# Altium footprint library ZPWL.PcbLib: 168 footprints (part 10 of 11)
Each footprint in its own frame and in the unit in brackets; x right, y up, seen from the top. Pads: shape width x height; smd on the part's side, far side on the other; paste and mask are expansions set on the pad; w line width, h text height; cw(c..) or ccw(c..) is an arc to the next point about the centre after c.
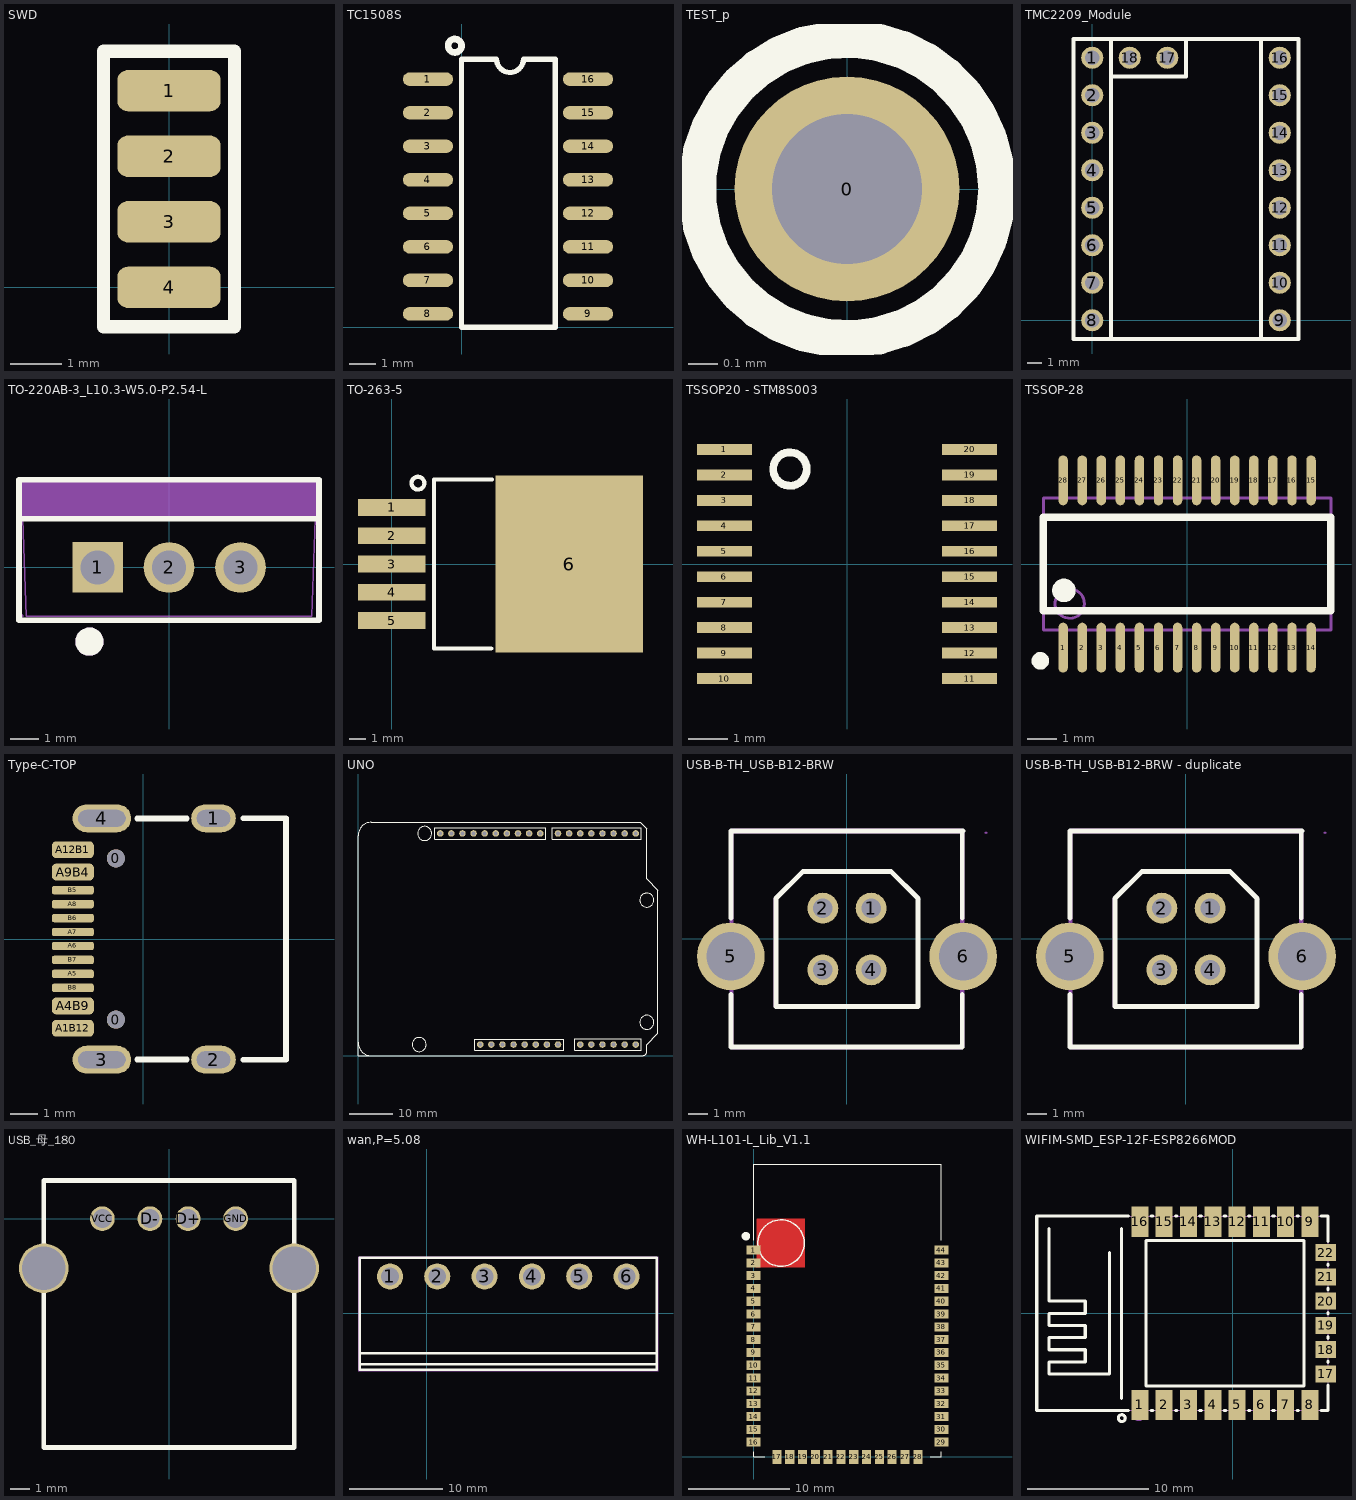
[diagram p9: the footprints below, top view; thin cyan lines are the x and y axes]

## SWD [mm]
pads (4):
  rrect50% 2x0.8 smd: 1(0,3.81) 2(0,2.54) 3(0,1.27) 4(0,0)
Top Overlay:
  lines w0.254: -1.27,-0.762 1.27,-0.762 1.27,4.572 -1.27,4.572 -1.27,-0.762

## TC1508S [mil]
pads (16):
  oval 75x20 smd: 1(-50,370) 2(-50,320) 3(-50,270) 4(-50,220) 5(-50,170) 6(-50,120) 7(-50,70) 8(-50,20) 9(188.72,20) 10(188.72,70) 11(188.72,120) 12(188.72,170) 13(188.72,220) 14(188.72,270) 15(188.72,320) 16(188.72,370)
Top Overlay:
  circle w10: c-10,420 r10
  lines w7.87: 0,0 0,400 52.36,400 ccw(c72.36,400) 92.36,400 140,400 140,0 0,0

## TEST_p [mil]
pads (1):
  round 30 hole 20: 0(0,0)
Top Overlay:
  circle w5: c0,0 r20

## TMC2209_Module [mm]
pads (19):
  round 1.5 hole 1: 1(0,17.78) 2(0,15.24) 3(0,12.7) 4(0,10.16) 5(0,7.62) 5(0,7.62) 6(0,5.08) 7(0,2.54) 8(0,0) 9(12.7,0) 10(12.7,2.54) 11(12.7,5.08) 12(12.7,7.62) 13(12.7,10.16) 14(12.7,12.7) 15(12.7,15.24) 16(12.7,17.78) 17(5.08,17.78) 18(2.54,17.78)
Top Overlay:
  lines w0.254: 1.27,-1.27 1.27,19.05 ; 1.27,16.51 6.35,16.51 6.35,19.05 ; 11.43,-1.27 11.43,19.05 ; -1.27,-1.27 13.97,-1.27 13.97,19.05 -1.27,19.05 -1.27,-1.27

## TO-220AB-3_L10.3-W5.0-P2.54-L [mm]
pads (3):
  rect 1.8x1.8 hole 1.2: 1(-2.54,0)
  round 1.8 hole 1.2: 2(0,0) 3(2.54,0)
Top Overlay:
  circle w0.5: c-2.83,-2.64 r0.25
  lines w0.201: -5.334,3.12 -5.334,-1.88 5.33,-1.88 5.33,3.12 -5.33,3.12 ; -5.33,1.724 5.33,1.724
Mechanical 6:
  circle w0.5: c-2.83,-2.64 r0.25
  region: -5.25,1.73 -5.25,3.13 5.25,3.13 5.25,1.73
Mechanical 15:
  region: 2.19,-0.25 2.19,0.25 2.89,0.25 2.89,-0.25
  region: -0.35,-0.25 -0.35,0.25 0.35,0.25 0.35,-0.25
  region: -2.89,0.25 -2.19,0.25 -2.19,-0.25 -2.89,-0.25
  region: -5.19,-1.73 -5.19,-1.705 -5.225,-1.67 -5.275,-1.67 -5.31,-1.705 -5.31,-1.73 -5.31,-1.755 -5.275,-1.79 -5.225,-1.79 -5.19,-1.755 -5.19,-1.73
  lines w0.051: -5.25,1.73 -5.25,3.13 5.25,3.13 5.25,1.73 5.2,1.73 5.2,1.74 5.08,-1.73 -5.08,-1.73 -5.2,1.73 -5.25,1.73

## TO-263-5 [mil]
pads (6):
  rect 160x40 smd: 1(0,133.86) 2(0,66.93) 3(0,0) 4(0,-66.93) 5(0,-133.86)
  rect 350x420 smd: 6(420,0)
Top Overlay:
  circle w10: c61.89,191.27 r15.17
  lines w10: 235.51,-200 100,-200 100,200 237.14,200

## TSSOP20 - STM8S003 [mm]
pads (20):
  rect 1.4x0.28 smd: 1(-3.124,2.925) 2(-3.124,2.275) 3(-3.124,1.625) 4(-3.124,0.975) 5(-3.124,0.325) 6(-3.124,-0.325) 7(-3.124,-0.975) 8(-3.124,-1.625) 9(-3.124,-2.275) 10(-3.124,-2.925) 11(3.124,-2.925) 12(3.124,-2.275) 13(3.124,-1.625) 14(3.124,-0.975) 15(3.124,-0.325) 16(3.124,0.325) 17(3.124,0.975) 18(3.124,1.625) 19(3.124,2.275) 20(3.124,2.925)
Top Overlay:
  circle w0.2: c-1.454,2.42 r0.427
3D body "TSSOP20.STEP": height 1.05, standoff 0, extent -3.175,-3.251 3.225,3.249

## TSSOP-28 [mm]
pads (28):
  oval 0.32x1.7 smd: 1(-4.225,-2.85) 2(-3.575,-2.85) 3(-2.925,-2.85) 4(-2.275,-2.85) 5(-1.625,-2.85) 6(-0.975,-2.85) 7(-0.325,-2.85) 8(0.325,-2.85) 9(0.975,-2.85) 10(1.625,-2.85) 11(2.275,-2.85) 12(2.925,-2.85) 13(3.575,-2.85) 14(4.225,-2.85) 15(4.225,2.85) 16(3.575,2.85) 17(2.925,2.85) 18(2.275,2.85) 19(1.625,2.85) 20(0.975,2.85) 21(0.325,2.85) 22(-0.325,2.85) 23(-0.975,2.85) 24(-1.625,2.85) 25(-2.275,2.85) 26(-2.925,2.85) 27(-3.575,2.85) 28(-4.225,2.85)
Top Overlay:
  circle w0.3: c-5,-3.3 r0.15
  circle w0.4: c-4.2,-0.9 r0.2
  lines w0.254: -4.9,-1.6 -4.9,1.6 4.9,1.6 4.9,-1.6 -4.9,-1.6
Mechanical 13:
  circle w0.1: c-4,-1.35 r0.5
  lines w0.1: -4.9,-2.25 -4.9,2.25 4.9,2.25 4.9,-2.25 -4.9,-2.25

## Type-C-TOP [mm]
pads (18):
  round 0.65 hole 0.65: 0(-0.98,-2.89) 0(-0.98,2.89)
  oval 1.6x1 hole 0.6 slot 1.2 at 0 deg: 1(2.52,4.325) 2(2.52,-4.325)
  oval 2.1x1 hole 0.6 slot 1.7 at 0 deg: 3(-1.48,-4.325) 4(-1.48,4.325)
  rrect50% 1.5x0.6 smd: A1B12(-2.52,-3.2) A4B9(-2.52,-2.4) A9B4(-2.52,2.4) A12B1(-2.52,3.2)
  rrect50% 1.5x0.3 smd: A5(-2.52,-1.25) A6(-2.52,-0.25) A7(-2.52,0.25) A8(-2.52,1.25) B5(-2.52,1.75) B6(-2.52,0.75) B7(-2.52,-0.75) B8(-2.52,-1.75)
Top Overlay:
  lines w0.203: -0.218,-4.318 1.56,-4.318 ; -0.218,4.318 1.56,4.318 ; 3.592,-4.325 5.12,-4.325 5.12,4.325 3.592,4.325
3D body "1.step": height 3.26, standoff -1, extent -2.568,-4.475 5.182,4.475

## UNO [mm]
pads (32):
  round 1.5 hole 0.9: 1(27.94,2.54) 2(30.48,2.54) 3(33.02,2.54) 4(35.56,2.54) 5(38.1,2.54) 6(40.64,2.54) 7(43.18,2.54) 8(45.72,2.54) 9(50.8,2.54) 10(53.34,2.54) 11(55.88,2.54) 12(58.42,2.54) 13(60.96,2.54) 14(63.5,2.54) 15(63.5,50.8) 16(60.96,50.8) 17(58.42,50.8) 18(55.88,50.8) 19(53.34,50.8) 20(50.8,50.8) 21(48.26,50.8) 22(45.72,50.8) 23(41.656,50.8) 24(39.116,50.8) 25(36.576,50.8) 26(34.036,50.8) 27(31.496,50.8) 28(28.956,50.8) 29(26.416,50.8) 30(23.876,50.8) 31(21.336,50.8) 32(18.796,50.8)
Top Overlay:
  circle w0.254: c66.04,35.56 r1.6
  circle w0.254: c13.97,2.54 r1.6
  circle w0.254: c15.24,50.8 r1.6
  circle w0.254: c66.04,7.62 r1.6
  lines w0.2: 17.526,49.53 42.926,49.53 42.926,52.07 17.526,52.07 17.526,49.53 ; 26.67,1.27 46.99,1.27 46.99,3.81 26.67,3.81 26.67,1.27 ; 44.45,49.53 64.77,49.53 64.77,52.07 44.45,52.07 44.45,49.53 ; 49.53,1.27 64.77,1.27 64.77,3.81 49.53,3.81 49.53,1.27
  lines w0.254: 0,1 0,50.292 cw(c3.048,50.292) 3.048,53.34 64.516,53.34 66.04,51.816 66.04,40.386 68.58,37.846 68.58,5.08 66.04,2.54 66.04,1 cw(c65.04,1) 65.04,0 1,0 ; 0,1.422 0,0 1.27,0 ; 0,3.048 ccw(c3.048,3.048) 3.048,0

## USB-B-TH_USB-B12-BRW [mm]
pads (6):
  round 1.6 hole 1: 1(1.25,1.6) 2(-1.25,1.6) 3(-1.25,-1.6) 4(1.25,-1.6)
  round 3.5 hole 2.5: 5(-6.02,-0.9) 6(6.02,-0.9)
Top Overlay:
  lines w0.254: -6,-2.881 -6,-5.588 5.969,-5.588 5.969,-2.881 ; -6,1.081 -6,5.588 6,5.588 ; 5.969,1.08 5.969,5.588 ; -3.683,-3.493 3.683,-3.493 3.683,2.095 2.286,3.492 -1.905,3.492 -2.286,3.492 -3.683,2.095 -3.683,-3.493
Mechanical 6:
  region: 5.87,5.5 5.87,-5.45 5.82,-5.5 -5.83,-5.5 -5.88,-5.45 -5.88,5.45 -5.83,5.5 -5.83,5.7 -5.98,5.7 -6.08,5.6 -6.08,-5.6 -5.98,-5.7 5.97,-5.7 6.07,-5.6 6.07,5.6 5.97,5.7 -5.78,5.7 -5.78,5.5
  region: 2.1,3.55 -2.35,3.55 -3.8,2.1 -3.55,2.1 -2.25,3.4 2.25,3.4 3.6,2.05 3.8,2.05 2.3,3.55 2.25,3.55
  region: -3.8,2.1 -3.8,-3.5 -3.7,-3.6 -3.6,-3.6 -3.6,2.05 -3.55,2.1
  region: 3.775,2.1 3.775,-3.5 3.675,-3.6 3.575,-3.6 3.575,2.05 3.525,2.1
  region: 3.55,-3.4 -3.55,-3.4 -3.55,-3.6 3.5,-3.6 3.55,-3.6
Mechanical 15:
  region: 7.26,5.5 7.26,5.525 7.225,5.56 7.176,5.56 7.14,5.525 7.14,5.5 7.14,5.475 7.176,5.44 7.225,5.44 7.26,5.475 7.26,5.5
  region: 0.95,1.725 1.55,1.725 1.55,1.475 0.95,1.475
  region: 0.95,-1.475 1.55,-1.475 1.55,-1.725 0.95,-1.725
  region: -1.55,-1.475 -0.95,-1.475 -0.95,-1.725 -1.55,-1.725
  region: -1.55,1.725 -0.95,1.725 -0.95,1.475 -1.55,1.475
  region: 5.87,-1.65 5.87,-0.15 6.17,-0.15 6.17,-1.65
  region: -6.17,-1.65 -6.17,-0.15 -5.87,-0.15 -5.87,-1.65
  region: 7.2,-0.15 7.2,-1.65 5.87,-1.65 5.87,-0.15
  region: -7.201,-1.65 -7.201,-0.15 -5.87,-0.15 -5.87,-1.65
  lines w0.051: -6,-5.5 -6,5.5 6,5.5 6,-5.5 -6,-5.5
3D body "USB-B12-BRW.STEP": height 16.32, standoff -5.1, extent -7.399,-5.412 7.399,5.588

## USB-B-TH_USB-B12-BRW - duplicate [mm]
pads (6):
  round 1.6 hole 1: 1(1.25,1.6) 2(-1.25,1.6) 3(-1.25,-1.6) 4(1.25,-1.6)
  round 3.5 hole 2.5: 5(-6.02,-0.9) 6(6.02,-0.9)
Top Overlay:
  lines w0.254: -6,-2.881 -6,-5.588 5.969,-5.588 5.969,-2.881 ; -6,1.081 -6,5.588 6,5.588 ; 5.969,1.08 5.969,5.588 ; -3.683,-3.493 -3.683,2.095 -2.286,3.492 -1.905,3.492 2.286,3.492 3.683,2.095 3.683,-3.493 -3.683,-3.493
Mechanical 6:
  region: 3.55,-3.4 -3.55,-3.4 -3.55,-3.6 3.5,-3.6 3.55,-3.6
  region: 3.775,2.1 3.775,-3.5 3.675,-3.6 3.575,-3.6 3.575,2.05 3.525,2.1
  region: -3.8,2.1 -3.8,-3.5 -3.7,-3.6 -3.6,-3.6 -3.6,2.05 -3.55,2.1
  region: 2.1,3.55 -2.35,3.55 -3.8,2.1 -3.55,2.1 -2.25,3.4 2.25,3.4 3.6,2.05 3.8,2.05 2.3,3.55 2.25,3.55
  region: 5.87,5.5 5.87,-5.45 5.82,-5.5 -5.83,-5.5 -5.88,-5.45 -5.88,5.45 -5.83,5.5 -5.83,5.7 -5.98,5.7 -6.08,5.6 -6.08,-5.6 -5.98,-5.7 5.97,-5.7 6.07,-5.6 6.07,5.6 5.97,5.7 -5.78,5.7 -5.78,5.5
Mechanical 15:
  region: -7.201,-1.65 -7.201,-0.15 -5.87,-0.15 -5.87,-1.65
  region: 7.2,-0.15 7.2,-1.65 5.87,-1.65 5.87,-0.15
  region: -6.17,-1.65 -6.17,-0.15 -5.87,-0.15 -5.87,-1.65
  region: 5.87,-1.65 5.87,-0.15 6.17,-0.15 6.17,-1.65
  region: -1.55,1.725 -0.95,1.725 -0.95,1.475 -1.55,1.475
  region: -1.55,-1.475 -0.95,-1.475 -0.95,-1.725 -1.55,-1.725
  region: 0.95,-1.475 1.55,-1.475 1.55,-1.725 0.95,-1.725
  region: 0.95,1.725 1.55,1.725 1.55,1.475 0.95,1.475
  region: 7.26,5.5 7.26,5.525 7.225,5.56 7.176,5.56 7.14,5.525 7.14,5.5 7.14,5.475 7.176,5.44 7.225,5.44 7.26,5.475 7.26,5.5
  lines w0.051: -6,-5.5 6,-5.5 6,5.5 -6,5.5 -6,-5.5

## USB_母_180 [mm]
pads (6):
  round 1.3 hole 1: D+(1,0) D-(-1,0) GND(3.5,0) VCC(-3.5,0)
  round 2.6 hole 2.3: ""(-6.57,-2.6) ""(6.57,-2.6)
Top Overlay:
  lines w0.254: -6.575,-12 6.575,-12 6.575,2 -6.575,2 ; -6.57,-12 -6.57,2

## wan,P=5.08 [mm]
pads (6):
  round 2.8 hole 1.9 paste+0 mask+0.051: 1(-3.939,3.964) 2(1.141,3.964) 3(6.221,3.964) 4(11.301,3.964) 5(16.381,3.964) 6(21.461,3.964)
Top Overlay:
  lines w0.254: -7.179,-5.449 24.701,-5.449 ; -7.179,-4.291 24.701,-4.291 ; -7.179,-6.036 -7.179,5.964 24.701,5.964 24.701,-6.036 -7.179,-6.036
Mechanical 15:
  drawing of 11 lines, arcs and shapes, not listed
3D body "XY2500R-D-5.08-6P.STEP": height 8.65, standoff -3.25, extent -7.38,-6.136 24.6,5.864

## WH-L101-L_Lib_V1.1 [mm] "WH-L101封装"
pads (44):
  rect 1.4x0.9 smd: 1(0,20.52) 2(0,19.25) 3(0,17.98) 4(0,16.71) 5(0,15.44) 6(0,14.17) 7(0,12.9) 8(0,11.63) 9(0,10.36) 10(0,9.09) 11(0,7.82) 12(0,6.55) 13(0,5.28) 14(0,4.01) 15(0,2.74) 16(0,1.47) 29(18.62,1.47) 30(18.62,2.74) 31(18.62,4.01) 32(18.62,5.28) 33(18.62,6.55) 34(18.62,7.82) 35(18.62,9.09) 36(18.62,10.36) 37(18.62,11.63) 38(18.62,12.9) 39(18.62,14.17) 40(18.62,15.44) 41(18.62,16.71) 42(18.62,17.98) 43(18.62,19.25) 44(18.62,20.52)
  rect 0.9x1.4 smd: 17(2.31,0) 18(3.58,0) 19(4.85,0) 20(6.12,0) 21(7.39,0) 22(8.66,0) 23(9.93,0) 24(11.2,0) 25(12.47,0) 26(13.74,0) 27(15.02,0) 28(16.29,0)
Top Layer:
  pour cut-out: 0.33,23.622 5.08,23.622 5.08,18.796 0.33,18.796
Top Overlay:
  circle w0.152: c2.72,21.21 r2.3
  circle w0.762: c-0.762,21.895 r0.036
  lines w0.07: 0,0.5 0,0 1.12,0 ; 0,21.5 0,29.05 18.62,29.05 18.62,21.5 ; 17.5,0 18.62,0 18.62,0.5

## WIFIM-SMD_ESP-12F-ESP8266MOD [mm]
pads (22):
  rect 1.4x2.5 smd: 1(-7.651,-7.551) 2(-5.651,-7.551) 3(-3.651,-7.551) 4(-1.651,-7.551) 5(0.349,-7.551) 6(2.349,-7.551) 7(4.349,-7.551) 8(6.349,-7.551) 9(6.349,7.549) 10(4.349,7.55) 11(2.349,7.551) 12(0.349,7.551) 13(-1.651,7.55) 14(-3.651,7.551) 15(-5.651,7.55) 16(-7.651,7.551)
  rect 1.7x1.4 smd: 17(7.651,-5) 18(7.649,-3.002) 19(7.65,-1.003) 20(7.65,0.997) 21(7.65,2.997) 22(7.65,4.997)
Top Overlay:
  circle w0.254: c-9.144,-8.636 r0.284
  lines w0.254: -15.151,6.998 -15.151,0.998 -12.151,0.998 -12.151,-0.002 -15.151,-0.002 -15.151,-1.002 -12.151,-1.002 -12.151,-2.002 -15.151,-2.002 -15.151,-3.002 -12.151,-3.002 -12.151,-4.002 -15.151,-4.002 -15.151,-5.002 -10.151,-5.002 -10.151,4.998 ; -9.151,-7.002 -9.151,6.998 ; -8.582,-8.001 -16.151,-8.001 -16.151,7.998 -8.582,7.998 ; -6.719,-8.001 -6.582,-8.001 ; -6.719,7.998 -6.582,7.998 ; -4.719,-8.001 -4.582,-8.001 ; -4.719,7.998 -4.582,7.998 ; -2.719,-8.001 -2.582,-8.001 ; -2.719,7.998 -2.582,7.998 ; -0.719,-8.001 -0.582,-8.001 ; -0.719,7.998 -0.582,7.998 ; 1.281,-8.001 1.418,-8.001 ; 1.281,7.998 1.418,7.998 ; 3.281,-8.001 3.418,-8.001 ; 3.281,7.998 3.418,7.998 ; 5.281,-8.001 5.418,-8.001 ; 5.281,7.998 5.418,7.998 ; 7.281,-8.001 7.847,-8.001 7.847,-5.931 ; 7.281,7.998 7.847,7.998 7.847,5.928 ; 7.847,-4.069 7.847,-3.933 ; 7.847,-2.071 7.847,-1.934 ; 7.847,-0.072 7.847,0.066 ; 7.847,1.929 7.847,2.066 ; 7.847,3.928 7.847,4.066 ; -7.151,-6.002 5.849,-6.002 5.849,5.998 -7.151,5.998 -7.151,-6.002
Mechanical 6:
  circle w0.5: c-7.747,-8.382 r0.25
Mechanical 15:
  region: -16.091,-8.003 -16.091,-7.978 -16.126,-7.943 -16.176,-7.943 -16.211,-7.978 -16.211,-8.003 -16.211,-8.028 -16.176,-8.063 -16.126,-8.063 -16.091,-8.028 -16.091,-8.003
  region: -7.151,-6.35 -7.151,-8 -8.151,-8 -8.151,-6.35
  region: -5.151,-6.35 -5.151,-8 -6.151,-8 -6.151,-6.35
  region: -3.151,-6.35 -3.151,-8 -4.151,-8 -4.151,-6.35
  region: -1.151,-6.35 -1.151,-8 -2.151,-8 -2.151,-6.35
  region: 0.849,-6.35 0.849,-8 -0.151,-8 -0.151,-6.35
  region: 2.849,-6.35 2.849,-8 1.849,-8 1.849,-6.35
  region: 4.849,-6.35 4.849,-8 3.849,-8 3.849,-6.35
  region: 6.849,-6.35 6.849,-8 5.849,-8 5.849,-6.35
  region: 5.849,6.35 5.849,8 6.849,8 6.849,6.35
  region: 3.849,6.35 3.849,8 4.849,8 4.849,6.35
  region: 1.849,6.35 1.849,8 2.849,8 2.849,6.35
  region: -0.151,6.35 -0.151,8 0.849,8 0.849,6.35
  region: -2.151,6.35 -2.151,8 -1.151,8 -1.151,6.35
  region: -4.151,6.35 -4.151,8 -3.151,8 -3.151,6.35
  region: -6.151,6.35 -6.151,8 -5.151,8 -5.151,6.35
  region: -8.151,6.35 -8.151,8 -7.151,8 -7.151,6.35
  region: 7.849,-4.5 7.849,-5.5 6.949,-5.5 6.949,-4.5
  region: 7.849,-2.502 7.849,-3.502 6.949,-3.502 6.949,-2.502
  region: 7.849,-0.503 7.849,-1.503 6.949,-1.503 6.949,-0.503
  region: 7.849,1.498 7.849,0.498 6.949,0.498 6.949,1.498
  region: 7.849,3.497 7.849,2.497 6.949,2.497 6.949,3.497
  region: 7.849,5.497 7.849,4.497 6.949,4.497 6.949,5.497
  lines w0.051: -16.151,-8.003 7.849,-8.003 7.849,7.997 -16.151,7.997 -16.151,-8.003